# EAGLE library part CD74HC4067SM96 (library graftel-internal-ic)
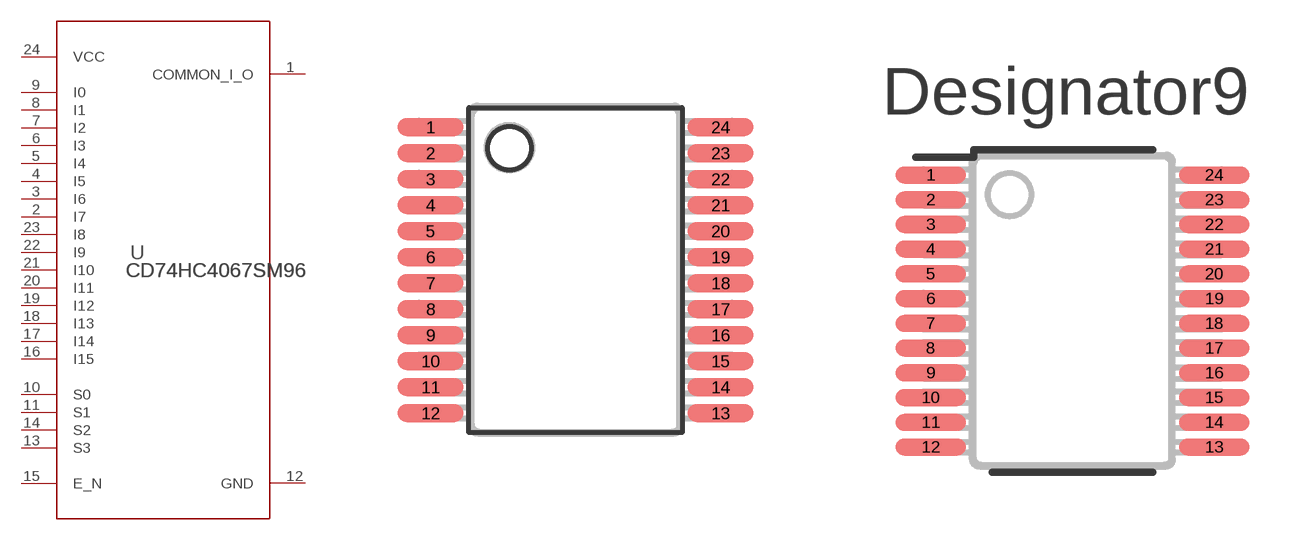
[diagram p75: symbol with the pads of DB0024A_N; footprints DB0024A_N, DB0024A_M]

Designator prefix U

## CD74HC4067SM96 (MANUFACTURER: Texas Instruments; PARTNUMBER: CD74HC4067SM96; REFDES: RefDes; TYPE: TYPE; VALUE: Value)  [DB0024A_N]
1  COMMON_I_O
2  I7  in
3  I6  in
4  I5  in
5  I4  in
6  I3  in
7  I2  in
8  I1  in
9  I0  in
10  S0  in
11  S1  in
12  GND  pwr
13  S3  in
14  S2  in
15  E_N  in
16  I15  in
17  I14  in
18  I13  in
19  I12  in
20  I11  in
21  I10  in
22  I9  in
23  I8  in
24  VCC  pwr

## CD74HC4067SM96DB0024A_M (MANUFACTURER: Texas Instruments; PARTNUMBER: CD74HC4067SM96; REFDES: RefDes; TYPE: TYPE; VALUE: Value)  [DB0024A_M]
Pads as for DB0024A_N

## CD74HC4067SM96DB0024A_L (MANUFACTURER: Texas Instruments; PARTNUMBER: CD74HC4067SM96; REFDES: RefDes; TYPE: TYPE; VALUE: Value)  [DB0024A_L]
Pads as for DB0024A_N

## Footprint DB0024A_N (pad centres in mm)
smd 1.65 x 0.45: 1 -3.625,3.575; 2 -3.625,2.925; 3 -3.625,2.275; 4 -3.625,1.625; 5 -3.625,0.975; 6 -3.625,0.325; 7 -3.625,-0.325; 8 -3.625,-0.975; 9 -3.625,-1.625; 10 -3.625,-2.275; 11 -3.625,-2.925; 12 -3.625,-3.575; 13 3.625,-3.575; 14 3.625,-2.925; 15 3.625,-2.275; 16 3.625,-1.625; 17 3.625,-0.975; 18 3.625,-0.325; 19 3.625,0.325; 20 3.625,0.975; 21 3.625,1.625; 22 3.625,2.275; 23 3.625,2.925; 24 3.625,3.575

## Footprint DB0024A_M (pad centres in mm)
smd 1.85 x 0.45: 1 -3.725,3.575; 2 -3.725,2.925; 3 -3.725,2.275; 4 -3.725,1.625; 5 -3.725,0.975; 6 -3.725,0.325; 7 -3.725,-0.325; 8 -3.725,-0.975; 9 -3.725,-1.625; 10 -3.725,-2.275; 11 -3.725,-2.925; 12 -3.725,-3.575; 13 3.725,-3.575; 14 3.725,-2.925; 15 3.725,-2.275; 16 3.725,-1.625; 17 3.725,-0.975; 18 3.725,-0.325; 19 3.725,0.325; 20 3.725,0.975; 21 3.725,1.625; 22 3.725,2.275; 23 3.725,2.925; 24 3.725,3.575

## Footprint DB0024A_L (pad centres in mm)
smd 1.45 x 0.45: 1 -3.525,3.575; 2 -3.525,2.925; 3 -3.525,2.275; 4 -3.525,1.625; 5 -3.525,0.975; 6 -3.525,0.325; 7 -3.525,-0.325; 8 -3.525,-0.975; 9 -3.525,-1.625; 10 -3.525,-2.275; 11 -3.525,-2.925; 12 -3.525,-3.575; 13 3.525,-3.575; 14 3.525,-2.925; 15 3.525,-2.275; 16 3.525,-1.625; 17 3.525,-0.975; 18 3.525,-0.325; 19 3.525,0.325; 20 3.525,0.975; 21 3.525,1.625; 22 3.525,2.275; 23 3.525,2.925; 24 3.525,3.575